# EAGLE library part B6B-PH (library lib_s77_eggbot)
JST B6B-PH
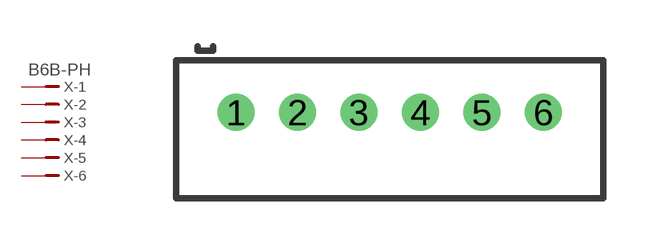
[diagram p2: symbol with the pads of B6B-PH; footprint B6B-PH]

Designator prefix X; gates -1=PM-VN -2=PM-N -3=PM-N -4=PM-N -5=PM-N -6=PM-N

## B6B-PH  [B6B-PH]
1  -1:1  pas
2  -2:1  pas
3  -3:1  pas
4  -4:1  pas
5  -5:1  pas
6  -6:1  pas

## Footprint B6B-PH (pad centres in mm)
PH CONNECTOR Top entry type, 2.0 mm, 6 pin 1 row https://www.jst-mfg.com/.../ePH.pdf <https://www.jst-mfg.com/product/pdf/eng/ePH.pdf>
drill 0.7 pad 1.1: 1 -5,0; 2 -3,0; 3 -1,0; 4 1,0; 5 3,0; 6 5,0